# EAGLE library part LM22676 (library Regulator)
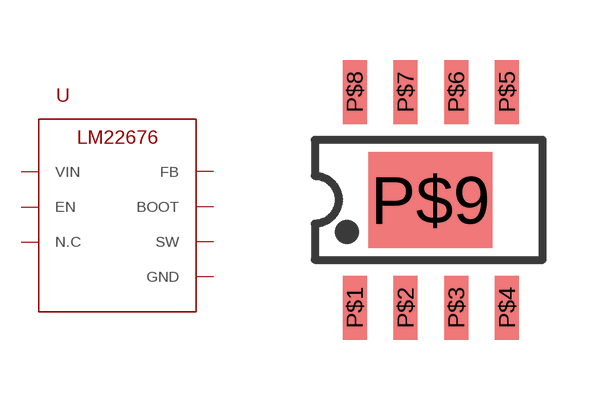
[diagram p0: symbol with the pads of SO-8/PAD; footprint SO-8/PAD]

Designator prefix U

## LM22676/AOPB  [SO-8/PAD]
P$1  BOOT
P$2  N.C
P$3  N.C
P$4  FB
P$5  EN
P$6  GND
P$7  VIN
P$8  SW
P$9  GND

## Footprint SO-8/PAD (pad centres in mm)
smd 0.6 x 1.6: P$1 -2.3,-2.5; P$2 -1.03,-2.5; P$3 0.24,-2.5; P$4 1.51,-2.5; P$5 1.51,2.9; P$6 0.24,2.9; P$7 -1.03,2.9; P$8 -2.3,2.9
smd 3.1 x 2.4: P$9 -0.4,0.2